# Altium schematic symbol library KMR221GLFS.SchLib: 1 symbol
Pins are listed as number, name and electrical type; pins without a type are passive.

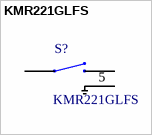
[diagram p0: symbol KMR221GLFS]

## KMR221GLFS
designator S?
Switch Tactile N.O. SPST Button Gull Wing 0.05A 32VDC 1VA 200000Cycles 2N SMD Automotive T/R; MF: C&K; Price: None; Package: None; SnapEDA_Link: https://www.snapeda.com/parts/KMR221GLFS/C%26K/view-part/?ref=snap; MP: KMR221GLFS; Availability: Unavailable; Value: *
footprint SW_KMR221GLFS
pins: 1,2 1, 3,4 3, 5